# Altium schematic symbol library AZ943-1CH-24DE.SchLib: 1 symbol
Pins are listed as number, name and electrical type; pins without a type are passive.

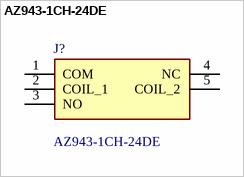
[diagram p0: symbol AZ943-1CH-24DE]

## AZ943-1CH-24DE
designator J?
15A SUGAR CUBE RELAY; Manufacturer_Name: Zettler Group; Geometry.Height: 15.95mm; Manufacturer_Part_Number: AZ943-1CH-24DE; Mouser Part Number: *; Mouser Price/Stock: *; Arrow Part Number: *; Arrow Price/Stock: *; Datasheet Link: https://www.azettler.com/pdfs/az943.pdf
footprint AZ9431CH24DE
pins: 1 COM, 2 COIL_1, 3 NO, 4 NC, 5 COIL_2